# EAGLE library part MS5534A/B (library m-pad-2.1)
Intersema Sensoric SA MS5534B (RoHS*) BAROMETER MODULE DESCRIPTION: The MS5534B is a SMD-hybrid device including a piezoresistive pressure sensor and an ADC-Interface IC. It provides a 16 Bit data word from a pressure and temperature dependent voltage. Additionally the module contains 6 readable coefficients for a highly accurate software calibration of the sensor. MS5534B is a low power, low voltage device with automatic power down (ON/OFF) switching. A 3-wire interface is used for all communications with a microcontroller. Sensor packaging options are plastic or metal cap. Compared to the previous version (MS5534A) the temperature range has been improved (-40 to +125°C) as well as the pressure range (measurement down to 10 mbar). Other improvements concern the ESD sensitivity, current consumption and converter accuracy. FEATURES: Supply voltage 2.2 V to 3.6 V Low supply current -40°C to +125°C operation temperature No external components required 10 - 1100 mbar absolute pressure range 6 coefficients for software compensation storedon-chip Piezoresistive silicon micromachined sensor Integrated miniature pressure sensor 9 x 9 mm 15 Bit ADC 3-wire serial interface 1 system clock line (32.768 kHz) Low voltage and low power consumption RoHS-compatible & Pb-free* APPLICATIONS Mobile altimeter / barometer systems Weather control systems Adventure or multi-mode watches GPS receivers Please send any comments to: messi@users.sourceforge.net
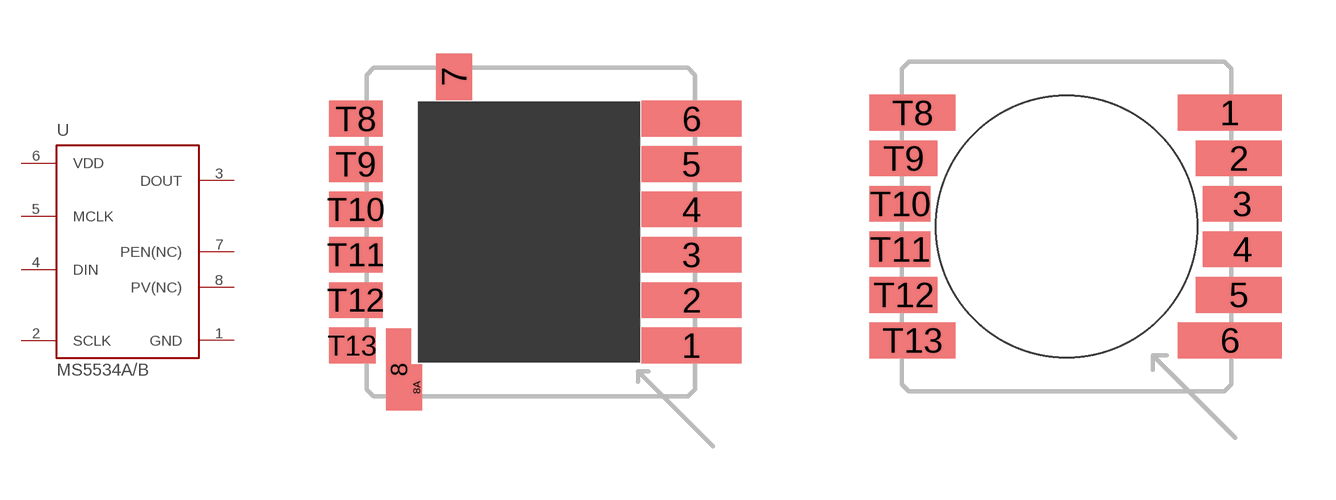
[diagram p91: symbol with the pads of MS5534B-BOTTOM; footprints MS5534B-BOTTOM, MS5534B-TOP]

Designator prefix U

## MS5534A/B-BOTTOM  [MS5534B-BOTTOM]
1  GND  pwr
2  SCLK  in
3  DOUT  out
4  DIN  in
5  MCLK  in
6  VDD  pwr
7  PEN(NC)  nc
8  PV(NC)  nc

## MS5534A/B-TOP  [MS5534B-TOP]
1  GND  pwr
2  SCLK  in
3  DOUT  out
4  DIN  in
5  MCLK  in
6  VDD  pwr
T8  PEN(NC)  nc
T9  PV(NC)  nc

## Footprint MS5534B-BOTTOM (pad centres in mm)
Pad layout for bottom side of MS5534B soldered onto printed circuit board
smd 2.8 x 1: 1 4.5,-3.175; 2 4.5,-1.905; 3 4.5,-0.635; 4 4.5,0.635; 5 4.5,1.905; 6 4.5,3.175
smd 1 x 1.3: 7 -2.15,4.35
smd 0.7 x 2.3: 8 -3.7,-3.85
smd 0.3 x 1.3: 8A -3.2,-4.35
smd 1.5 x 1: T8 -4.9,3.175; T9 -4.9,1.905; T10 -4.9,0.635; T11 -4.9,-0.635; T12 -4.9,-1.905
smd 1.3 x 1: T13 -5,-3.175

## Footprint MS5534B-TOP (pad centres in mm)
Pad layout for top side of MS5534B soldered onto printed circuit board
smd 2.9 x 1: 1 4.55,3.175; 6 4.55,-3.175
smd 2.4 x 1: 2 4.8,1.905; 5 4.8,-1.905; T8 -4.3,3.175; T13 -4.3,-3.175
smd 2.2 x 1: 3 4.9,0.635; 4 4.9,-0.635
smd 1.9 x 1: T9 -4.55,1.905; T12 -4.55,-1.905
smd 1.7 x 1: T10 -4.65,0.635; T11 -4.65,-0.635
hole 7.3 at 0,0